# EAGLE library part TPS61288 (library Bauteile)
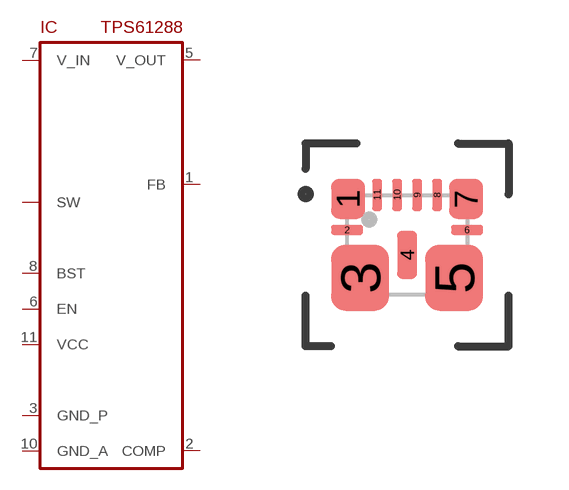
[diagram p109: symbol with the pads of VQFN-HR_RQQ-11; footprint VQFN-HR_RQQ-11]

Designator prefix IC

## TPS61288  [VQFN-HR_RQQ-11]
1  FB
2  COMP
3  GND_P
4  SW
5  V_OUT
6  EN
7  V_IN
8  BST
9  SW
10  GND_A
11  VCC

## Footprint VQFN-HR_RQQ-11 (pad centres in mm)
smd 0.85 x 1: 1 -1.475,1.15; 7 1.475,1.15
smd 0.8 x 0.25: 2 -1.5,0.375; 6 1.5,0.375
smd 1.45 x 1.65: 3 -1.175,-0.825; 5 1.175,-0.825
smd 0.5 x 1.2: 4 0,-0.25
smd 0.25 x 0.8: 8 0.75,1.25; 9 0.25,1.25; 10 -0.25,1.25; 11 -0.75,1.25